# EAGLE library part ADL5513 (library custom)
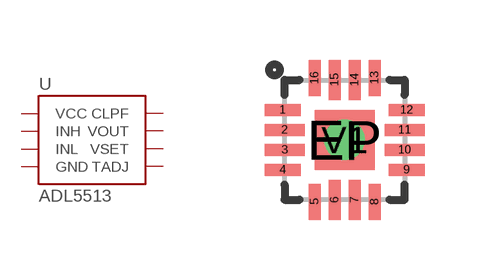
[diagram p93: symbol with the pads of 16-LFCSP_VQ; footprint 16-LFCSP_VQ]

Designator prefix U

## ADL5513  [16-LFCSP_VQ]
1  VCC
2  INH
3  INL
4  VCC
5  GND
6  GND
7  GND
8  GND
9  TADJ
10  GND
11  VSET
12  VOUT
13  GND
14  CLPF
15  GND
16  GND
EP  GND
V1  GND

## Footprint 16-LFCSP_VQ (pad centres in mm)
smd 0.9 x 0.3: 1 -1.55,0.75; 4 -1.55,-0.75; 9 1.55,-0.75; 12 1.55,0.75
smd 1 x 0.3: 2 -1.5,0.25; 3 -1.5,-0.25; 10 1.5,-0.25; 11 1.5,0.25
smd 0.3 x 0.9: 5 -0.75,-1.55; 8 0.75,-1.55; 13 0.75,1.55; 16 -0.75,1.55
smd 0.3 x 1: 6 -0.25,-1.5; 7 0.25,-1.5; 14 0.25,1.5; 15 -0.25,1.5
smd 1.5 x 1.5: EP 0,0
drill 0.508: V1 0,0